# EAGLE library part LTC3549 (library linear-technology)
250mA Low VIN Buck Source: http://www.linear.com/pc/downloadDocument.do?navId=H0,C1,C1003,C1042,C1032,C1063,P26952,D16357
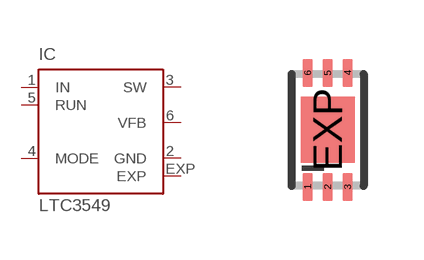
[diagram p10: symbol with the pads of DFN6-2X3; footprint DFN6-2X3]

Designator prefix IC

## LTC3549 (MPN: LTC3549EDCB#TRMPBF; OC_FARNELL: 1715241; OC_NEWARK: 56M8010)  [DFN6-2X3]
1  IN  in
2  GND  pwr
3  SW  out
4  MODE  in
5  RUN  in
6  VFB  in
EXP  EXP  pas

## Footprint DFN6-2X3 (pad centres in mm)
DCB Package 6-Lead Plastic DFN (2mm × 3mm) Source: http://www.linear.com/pc/downloadDocument.do?navId=H0,C1,C1003,C1042,C1032,C1063,P26952,D16357
smd 0.25 x 0.7: 1 -0.5,-1.425; 2 0,-1.425; 3 0.5,-1.425; 4 0.5,1.425; 5 0,1.425; 6 -0.5,1.425
smd 1.35 x 1.65: EXP 0,0